# Altium integrated library RMCF0402FT10K0.IntLib: 1 symbol
Pins are listed as number, name and electrical type; pins without a type are passive.

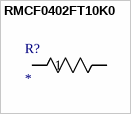
[diagram p0: symbol RMCF0402FT10K0]

## RMCF0402FT10K0
designator R?
No Description Available; Mfr_Name: Stackpole International
footprint STA_RMCF0402_STP
pins: 1, 2